# EAGLE library part RR_3X_B (library #PaJa_31)
Odporova sit - 3x
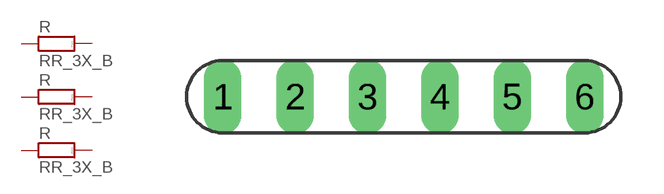
[diagram p25: symbol with the pads of RR_3X_B; footprint RR_3X_B]

Designator prefix R; gates G$1=RR G$2=RR G$3=RR

## RR_3X_B  [RR_3X_B]
1  G$1:1  pas
2  G$1:2  pas
3  G$2:1  pas
4  G$2:2  pas
5  G$3:1  pas
6  G$3:2  pas

## Footprint RR_3X_B (pad centres in mm)
drill 0.813 pad 1.27 long: 1 -6.35,0; 2 -3.81,0; 3 -1.27,0; 4 1.27,0; 5 3.81,0; 6 6.35,0